# Altium footprint library QFN-40_5x5x04P.PcbLib: 1 footprints
Each footprint in its own frame and in the unit in brackets; x right, y up, seen from the top. Pads: shape width x height; smd on the part's side, far side on the other; paste and mask are expansions set on the pad; w line width, h text height; cw(c..) or ccw(c..) is an arc to the next point about the centre after c.
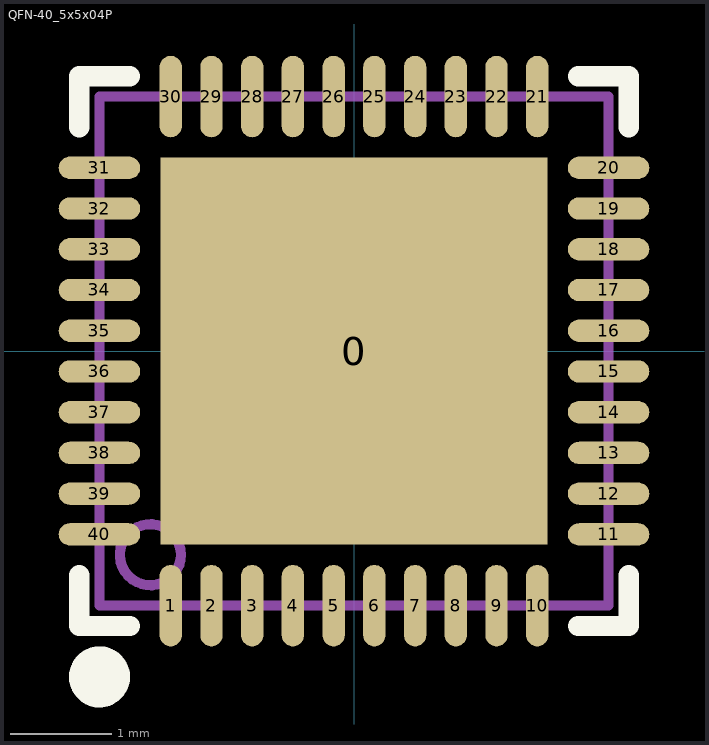
[diagram p0: the footprint, top view; thin cyan lines are the x and y axes]

## QFN-40_5x5x04P [mm]
pads (41):
  rect 3.8x3.8 smd mask+0.051: 0(0,0)
  oval 0.22x0.8 smd mask+0.051: 1(-1.8,-2.5) 2(-1.4,-2.5) 3(-1,-2.5) 4(-0.6,-2.5) 5(-0.2,-2.5) 6(0.2,-2.5) 7(0.6,-2.5) 8(1,-2.5) 9(1.4,-2.5) 10(1.8,-2.5) 21(1.8,2.5) 22(1.4,2.5) 23(1,2.5) 24(0.6,2.5) 25(0.2,2.5) 26(-0.2,2.5) 27(-0.6,2.5) 28(-1,2.5) 29(-1.4,2.5) 30(-1.8,2.5)
  oval 0.8x0.22 smd mask+0.051: 11(2.5,-1.8) 12(2.5,-1.4) 13(2.5,-1) 14(2.5,-0.6) 15(2.5,-0.2) 16(2.5,0.2) 17(2.5,0.6) 18(2.5,1) 19(2.5,1.4) 20(2.5,1.8) 31(-2.5,1.8) 32(-2.5,1.4) 33(-2.5,1) 34(-2.5,0.6) 35(-2.5,0.2) 36(-2.5,-0.2) 37(-2.5,-0.6) 38(-2.5,-1) 39(-2.5,-1.4) 40(-2.5,-1.8)
Top Overlay:
  circle w0.3: c-2.5,-3.2 r0.15
  lines w0.2: -2.7,-2.2 -2.7,-2.7 -2.2,-2.7 ; -2.7,2.2 -2.7,2.7 -2.2,2.7 ; 2.2,-2.7 2.7,-2.7 2.7,-2.2 ; 2.2,2.7 2.7,2.7 2.7,2.2
Top Paste:
  rectangle: -0.7,-0.3 -0.2,0.2
  rectangle: 0.1,-0.3 0.6,0.2
  rectangle: -0.7,-1.1 -0.2,-0.6
  rectangle: 0.1,-1.1 0.6,-0.6
  rectangle: -1.5,-1.1 -1,-0.6
  rectangle: -1.5,-0.3 -1,0.2
  rectangle: -1.5,0.5 -1,1
  rectangle: -0.7,0.5 -0.2,1
  rectangle: 0.1,0.5 0.6,1
Mechanical 13:
  circle w0.1: c-2,-2 r0.3
  lines w0.1: -2.5,-2.5 2.5,-2.5 2.5,2.5 -2.5,2.5 -2.5,-2.5